# Altium footprint library Pill_STM32F405.PcbLib: 6 footprints
Each footprint in its own frame and in the unit in brackets; x right, y up, seen from the top. Pads: shape width x height; smd on the part's side, far side on the other; paste and mask are expansions set on the pad; w line width, h text height; cw(c..) or ccw(c..) is an arc to the next point about the centre after c.
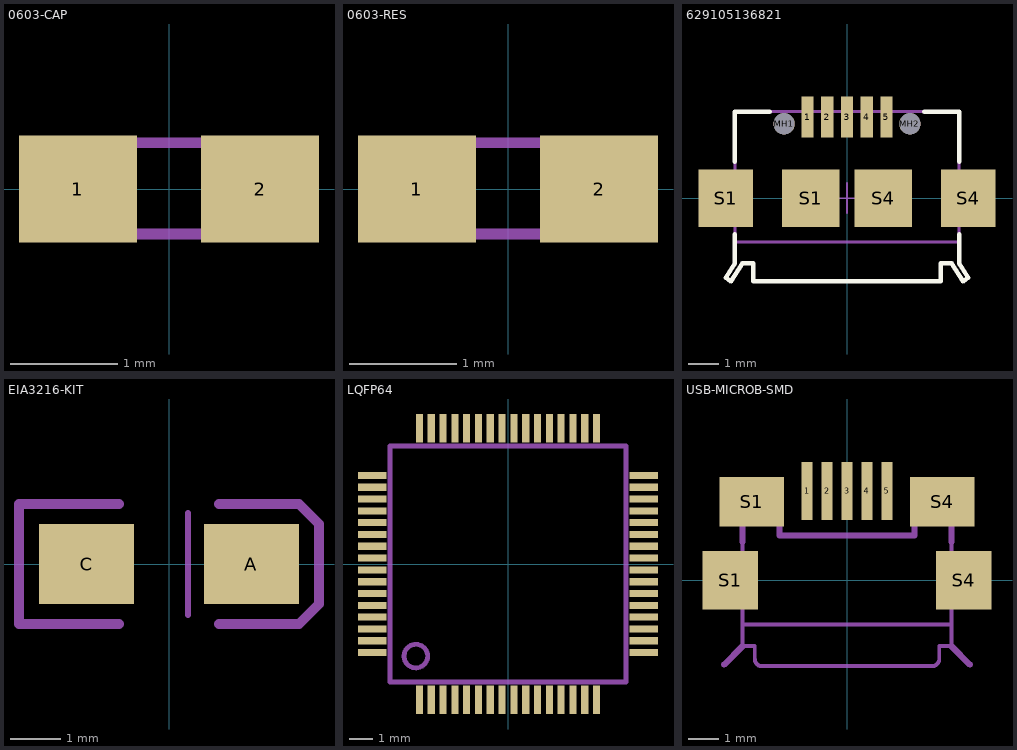
[diagram p0: the footprints below, top view; thin cyan lines are the x and y axes]

## 0603-CAP [mm] "0603-CAP"
pads (2):
  rect 1.1x1 smd: 1(-0.85,0) 2(0.85,0)
BoardInner:
  region: 0.33,-0.47 0.33,0.48 0.83,0.48 0.83,-0.47
  region: -0.838,-0.47 -0.838,0.48 -0.338,0.48 -0.338,-0.47
  lines w0.102: -0.356,-0.419 0.356,-0.419 ; -0.356,0.432 0.356,0.432
3D body "User Library-0603_Cap.step": height 0.8, standoff 0, extent -1.23,-0.4 1.23,0.4

## 0603-RES [mm] "0603-RES"
pads (2):
  rect 1.1x1 smd: 1(-0.85,0) 2(0.85,0)
BoardInner:
  region: -0.838,-0.47 -0.838,0.48 -0.338,0.48 -0.338,-0.47
  region: 0.33,-0.47 0.33,0.48 0.83,0.48 0.83,-0.47
  lines w0.102: -0.356,-0.419 0.356,-0.419 ; -0.356,0.432 0.356,0.432
3D body "User Library-User Library-res0603_res0603_body.step": height 0.51, standoff 0, extent -0.8,-0.406 0.8,0.406

## 629105136821 [mm] "Micro USB 2.0 SMT Type B Horizontal 5 Contacts"
height 3
pads (11):
  rect 0.4x1.35 smd: 1(-1.3,2.675) 2(-0.65,2.675) 3(0,2.675) 4(0.65,2.675) 5(1.3,2.675)
  round 0.7 hole 0.7 unplated: MH1(-2.075,2.45) MH2(2.075,2.45)
  rect 1.8x1.9 smd: S1(-4,0) S4(4,0)
  rect 1.9x1.9 smd: S1(-1.2,0) S4(1.2,0)
Top Overlay:
  lines w0.15: -3.7,-1.2 -3.7,-2.15 -4,-2.625 -3.825,-2.75 -3.45,-2.15 -3.1,-2.15 -3.1,-2.75 3.1,-2.75 3.1,-2.15 3.45,-2.15 3.825,-2.75 4,-2.625 3.7,-2.15 3.7,-1.2 ; -3.7,1.2 -3.7,2.85 -2.55,2.85 ; 2.55,2.85 3.7,2.85 3.7,1.2
Plata:
  lines w0.1: -3.7,-1.45 3.7,-1.45
  text "PCB Edge" at -1.2,-2.1 h0.41
TopAssy:
  lines w0.1: -1.425,2.85 -1.425,3.15 -1.175,3.15 -1.175,2.85 ; -0.775,2.85 -0.775,3.15 -0.525,3.15 -0.525,2.85 ; -0.125,2.85 -0.125,3.15 0.125,3.15 0.125,2.85 ; 0.525,2.85 0.525,3.15 0.775,3.15 0.775,2.85 ; 1.175,2.85 1.175,3.15 1.425,3.15 1.425,2.85 ; -4,-2.625 -3.825,-2.75 -3.45,-2.15 -3.1,-2.15 -3.1,-2.75 3.1,-2.75 3.1,-2.15 3.45,-2.15 3.825,-2.75 4,-2.625 3.7,-2.15 3.7,2.85 -3.7,2.85 -3.7,-2.15 -4,-2.625
TopCourtyard:
  lines w0.05: -0.5,0 0.5,0 ; 0,-0.5 0,0.5
3D body "629105136821.stp": height 2.69, standoff -0.61, extent -4,-2.73 4,3.173

## EIA3216-KIT [mm] "EIA3216-KIT"
pads (2):
  rect 1.9x1.6 smd: A(1.65,0) C(-1.65,0)
Mechanical 7:
  lines w0.127: 0.381,-1.016 0.381,1.016
  lines w0.203: -1,-1.2 -3,-1.2 -3,1.2 -1,1.2 ; 1,-1.2 2.6,-1.2 3,-0.8 3,0.8 2.6,1.2 1,1.2

## LQFP64 [mm] "LQFP64"
pads (64):
  rect 0.3x1.2 smd: 1(-3.75,-5.75) 2(-3.25,-5.75) 3(-2.75,-5.75) 4(-2.25,-5.75) 5(-1.75,-5.75) 6(-1.25,-5.75) 7(-0.75,-5.75) 8(-0.25,-5.75) 9(0.25,-5.75) 10(0.75,-5.75) 11(1.25,-5.75) 12(1.75,-5.75) 13(2.25,-5.75) 14(2.75,-5.75) 15(3.25,-5.75) 16(3.75,-5.75) 33(3.75,5.75) 34(3.25,5.75) 35(2.75,5.75) 36(2.25,5.75) 37(1.75,5.75) 38(1.25,5.75) 39(0.75,5.75) 40(0.25,5.75) 41(-0.25,5.75) 42(-0.75,5.75) 43(-1.25,5.75) 44(-1.75,5.75) 45(-2.25,5.75) 46(-2.75,5.75) 47(-3.25,5.75) 48(-3.75,5.75)
  rect 1.2x0.3 smd: 17(5.75,-3.75) 18(5.75,-3.25) 19(5.75,-2.75) 20(5.75,-2.25) 21(5.75,-1.75) 22(5.75,-1.25) 23(5.75,-0.75) 24(5.75,-0.25) 25(5.75,0.25) 26(5.75,0.75) 27(5.75,1.25) 28(5.75,1.75) 29(5.75,2.25) 30(5.75,2.75) 31(5.75,3.25) 32(5.75,3.75) 49(-5.75,3.75) 50(-5.75,3.25) 51(-5.75,2.75) 52(-5.75,2.25) 53(-5.75,1.75) 54(-5.75,1.25) 55(-5.75,0.75) 56(-5.75,0.25) 57(-5.75,-0.25) 58(-5.75,-0.75) 59(-5.75,-1.25) 60(-5.75,-1.75) 61(-5.75,-2.25) 62(-5.75,-2.75) 63(-5.75,-3.25) 64(-5.75,-3.75)
TopAssy:
  circle w0.2: c-3.9,-3.9 r0.5
  lines w0.2: -5,-5 -5,5 5,5 5,-5 -5,-5
3D body "User Library-STM32F030R8T6.step": height 1.45, standoff 0, extent -6.012,-6.012 6.012,6.012

## USB-MICROB-SMD [mm] "USB-MICROB-SMD"
pads (9):
  rect 0.35x1.9 smd: 1(-1.3,2.9) 2(-0.65,2.9) 3(0,2.9) 4(0.65,2.9) 5(1.3,2.9)
  rect 1.8x1.9 smd paste+0: S1(-3.8,0) S4(3.8,0)
  rect 2.1x1.6 smd paste+0: S1(-3.1,2.55) S4(3.1,2.55)
Top Paste:
  region: -4.88,-1.143 -4.88,1.143 -2.594,1.143 -2.594,-1.143
  region: 2.594,-1.143 2.594,1.143 4.88,1.143 4.88,-1.143
  region: -4.3,1.5 -4.3,3.5 -2,3.5 -2,1.5
  region: 2,1.5 2,3.5 4.3,3.5 4.3,1.5
BoardInner:
  lines w0.127: -3.4,-1.45 -3.4,-2.15 -3,-2.15 -3,-2.55 ccw(c-2.762,-2.565) -2.8,-2.8 2.75,-2.8 ccw(c2.765,-2.563) 3,-2.6 3,-2.15 3.4,-2.15 3.4,-1.45 ; -3.4,-1.45 -3.4,2.85 -2.2,2.85 -2.2,1.45 2.2,1.45 2.2,2.85 3.4,2.85 3.4,-1.45 ; -3.4,-1.45 3.4,-1.45
  lines w0.203: -4,-2.75 -3.4,-2.15 ; -3.4,1.25 -3.4,2.85 -2.2,2.85 -2.2,1.45 ; 2.2,1.45 2.2,2.85 3.4,2.85 3.4,1.25 ; 3.4,-2.15 4,-2.75
Mechanical 7:
  lines w0.203: -2.2,1.45 2.2,1.45
3D body "629105136821.stp": height 2.69, standoff -0.61, extent -4,-2.753 4,3.15